# EAGLE library part 690368180672 (library Board_to_Board_Connectors_rev15d)
WR-MM Female Angled Connector without Latch and without Polarization, 6 Pins=>Code : Con_BTB_MM_Female_THT_Ang_690368180672 <http://katalog.we-online.de/media/thumbs2/eican/thb_Con_BTB_MM_Female_THT_Ang_69036818xx72_pf2.jpg> Details see: http://katalog.we-online.de/en/em/6903_6818_xx_72 Created 2014-06-04, Karrer Zheng 2014 (C) Würth Elektronik
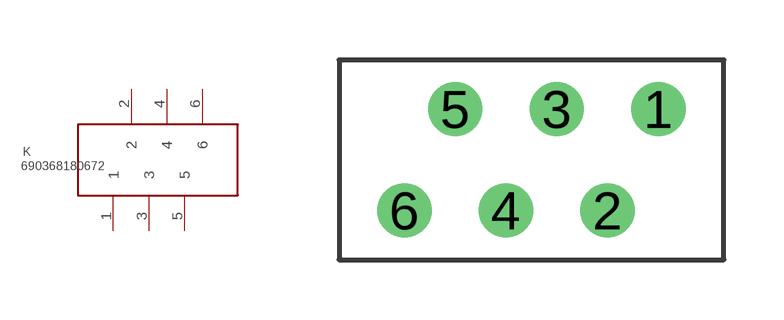
[diagram p398: symbol with the pads of 690368180672; footprint 690368180672]

Designator prefix K

## 690368180672  [690368180672]
1  1  pas
2  2  pas
3  3  pas
4  4  pas
5  5  pas
6  6  pas

## Footprint 690368180672 (pad centres in mm)
WR-MM Female Angled Connector without Latch and without Polarization, 6 Pins
drill 0.85: 1 1.905,1.27; 2 0.635,-1.27; 3 -0.635,1.27; 4 -1.905,-1.27; 5 -3.175,1.27; 6 -4.445,-1.27